# Altium schematic symbol library POL-12208.SchLib: 1 symbol
Pins are listed as number, name and electrical type; pins without a type are passive.

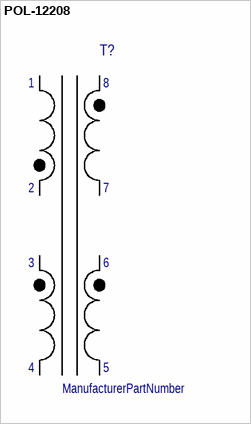
[diagram p0: symbol POL-12208]

## POL-12208
designator T?  (value not drawn)
ManufacturerPartNumber: ManufacturerPartNumber
pins: 1, 2, 3, 4, 5, 6, 7, 8
1 alternate drawing of the same symbol